# Altium schematic symbol library WE-MAPI_3020.SchLib: 11 symbols
Pins are listed as number, name and electrical type; pins without a type are passive.

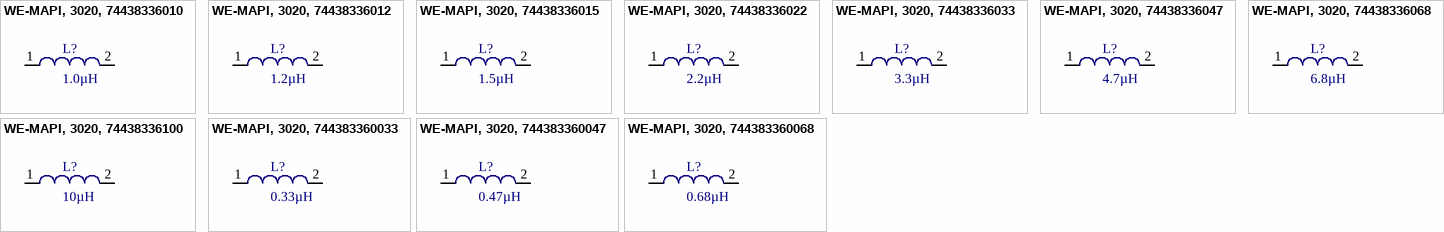
[diagram p0: symbols WE-MAPI, 3020, 74438336010 to WE-MAPI, 3020, 744383360068]

## WE-MAPI, 3020, 74438336010
designator L?, comment 1.0µH
SMD Power Inductor WE-MAPI, L=1.0µH; partNo: 74438336010; Manufacturer: Würth Elektronik eiSos GmbH; Inductance: 1.0µH; ComponentLink1Description: Manufacturer; ComponentLink1URL: http://www.we-online.de; Created by: Christin Zierenner; Created Date: Oct-2014; ComponentLink2Description: Datasheet; ComponentLink2URL: http://katalog.we-online.de/kataloge/eisos/media/pdf/7443833601pdf
footprint WE-MAPI 3020 (SMD Inductor, 2-Leads, Body 3x 3mm,IPC Medium Density)
pins: 1, 2

## WE-MAPI, 3020, 74438336012
designator L?, comment 1.2µH
SMD Power Inductor WE-MAPI, L=1.2µH; partNo: 74438336012; Manufacturer: Würth Elektronik eiSos GmbH; Inductance: 1.2µH; ComponentLink1Description: Manufacturer; ComponentLink1URL: http://www.we-online.de; Created by: Christin Zierenner; Created Date: Oct-2014; ComponentLink2Description: Datasheet; ComponentLink2URL: http://katalog.we-online.de/kataloge/eisos/media/pdf/74438336012.pdf
footprint WE-MAPI 3020 (SMD Inductor, 2-Leads, Body 3x 3mm,IPC Medium Density)
pins: 1, 2

## WE-MAPI, 3020, 74438336015
designator L?, comment 1.5µH
SMD Power Inductor WE-MAPI, L=1.5µH; partNo: 74438336015; Manufacturer: Würth Elektronik eiSos GmbH; Inductance: 1.5µH; ComponentLink1Description: Manufacturer; ComponentLink1URL: http://www.we-online.de; Created by: Christin Zierenner; Created Date: Oct-2014; ComponentLink2Description: Datasheet; ComponentLink2URL: http://katalog.we-online.de/kataloge/eisos/media/pdf/74438336015.pdf
footprint WE-MAPI 3020 (SMD Inductor, 2-Leads, Body 3x 3mm,IPC Medium Density)
pins: 1, 2

## WE-MAPI, 3020, 74438336022
designator L?, comment 2.2µH
SMD Power Inductor WE-MAPI, L=2.2µH; partNo: 74438336022; Manufacturer: Würth Elektronik eiSos GmbH; Inductance: 2.2µH; ComponentLink1Description: Manufacturer; ComponentLink1URL: http://www.we-online.de; Created by: Christin Zierenner; Created Date: Oct-2014; ComponentLink2Description: Datasheet; ComponentLink2URL: http://katalog.we-online.de/kataloge/eisos/media/pdf/74438336022.pdf
footprint WE-MAPI 3020 (SMD Inductor, 2-Leads, Body 3x 3mm,IPC Medium Density)
pins: 1, 2

## WE-MAPI, 3020, 74438336033
designator L?, comment 3.3µH
SMD Power Inductor WE-MAPI, L=3.3µH; partNo: 74438336033; Manufacturer: Würth Elektronik eiSos GmbH; Inductance: 3.3µH; ComponentLink1Description: Manufacturer; ComponentLink1URL: http://www.we-online.de; Created by: Christin Zierenner; Created Date: Oct-2014; ComponentLink2Description: Datasheet; ComponentLink2URL: http://katalog.we-online.de/kataloge/eisos/media/pdf/74438336033.pdf
footprint WE-MAPI 3020 (SMD Inductor, 2-Leads, Body 3x 3mm,IPC Medium Density)
pins: 1, 2

## WE-MAPI, 3020, 74438336047
designator L?, comment 4.7µH
SMD Power Inductor WE-MAPI, L=4.7µH; partNo: 74438336047; Manufacturer: Würth Elektronik eiSos GmbH; Inductance: 4.7µH; ComponentLink1Description: Manufacturer; ComponentLink1URL: http://www.we-online.de; Created by: Christin Zierenner; Created Date: Oct-2014; ComponentLink2Description: Datasheet; ComponentLink2URL: http://katalog.we-online.de/kataloge/eisos/media/pdf/74438336047.pdf
footprint WE-MAPI 3020 (SMD Inductor, 2-Leads, Body 3x 3mm,IPC Medium Density)
pins: 1, 2

## WE-MAPI, 3020, 74438336068
designator L?, comment 6.8µH
SMD Power Inductor WE-MAPI, L=6.8µH; partNo: 74438336068; Manufacturer: Würth Elektronik eiSos GmbH; Inductance: 6.8µH; ComponentLink1Description: Manufacturer; ComponentLink1URL: http://www.we-online.de; Created by: Christin Zierenner; Created Date: Oct-2014; ComponentLink2Description: Datasheet; ComponentLink2URL: http://katalog.we-online.de/kataloge/eisos/media/pdf/74438336068.pdf
footprint WE-MAPI 3020 (SMD Inductor, 2-Leads, Body 3x 3mm,IPC Medium Density)
pins: 1, 2

## WE-MAPI, 3020, 74438336100
designator L?, comment 10µH
SMD Power Inductor WE-MAPI, L=10µH; partNo: 74438336100; Manufacturer: Würth Elektronik eiSos GmbH; Inductance: 10µH; ComponentLink1Description: Manufacturer; ComponentLink1URL: http://www.we-online.de; Created by: Christin Zierenner; Created Date: Oct-2014; ComponentLink2Description: Datasheet; ComponentLink2URL: http://katalog.we-online.de/kataloge/eisos/media/pdf/74438336100.pdf
footprint WE-MAPI 3020 (SMD Inductor, 2-Leads, Body 3x 3mm,IPC Medium Density)
pins: 1, 2

## WE-MAPI, 3020, 744383360033
designator L?, comment 0.33µH
SMD Power Inductor WE-MAPI, L=0.33µH; partNo: 744383360033; Manufacturer: Würth Elektronik eiSos GmbH; Inductance: 0.33µH; ComponentLink1Description: Manufacturer; ComponentLink1URL: http://www.we-online.de; Created by: Christin Zierenner; Created Date: Oct-2014; ComponentLink2Description: Datasheet; ComponentLink2URL: http://katalog.we-online.de/kataloge/eisos/media/pdf/744383360033.pdf
footprint WE-MAPI 3020 (SMD Inductor, 2-Leads, Body 3x 3mm,IPC Medium Density)
pins: 1, 2

## WE-MAPI, 3020, 744383360047
designator L?, comment 0.47µH
SMD Power Inductor WE-MAPI, L=0.47µH; partNo: 744383360047; Manufacturer: Würth Elektronik eiSos GmbH; Inductance: 0.47µH; ComponentLink1Description: Manufacturer; ComponentLink1URL: http://www.we-online.de; Created by: Christin Zierenner; Created Date: Oct-2014; ComponentLink2Description: Datasheet; ComponentLink2URL: http://katalog.we-online.de/kataloge/eisos/media/pdf/744383360047.pdf
footprint WE-MAPI 3020 (SMD Inductor, 2-Leads, Body 3x 3mm,IPC Medium Density)
pins: 1, 2

## WE-MAPI, 3020, 744383360068
designator L?, comment 0.68µH
SMD Power Inductor WE-MAPI, L=0.68µH; partNo: 744383360068; Manufacturer: Würth Elektronik eiSos GmbH; Inductance: 0.68µH; ComponentLink1Description: Manufacturer; ComponentLink1URL: http://www.we-online.de; Created by: Christin Zierenner; Created Date: Oct-2014; ComponentLink2Description: Datasheet; ComponentLink2URL: http://katalog.we-online.de/kataloge/eisos/media/pdf/744383360068.pdf
footprint WE-MAPI 3020 (SMD Inductor, 2-Leads, Body 3x 3mm,IPC Medium Density)
pins: 1, 2